# Altium schematic symbol library XCF16PVOG48C.SchLib: 1 symbol
Pins are listed as number, name and electrical type; pins without a type are passive.

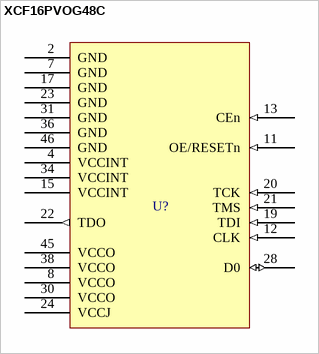
[diagram p0: symbol XCF16PVOG48C]

## XCF16PVOG48C
designator U?  (value not drawn)
footprint FPGA_FLASH (TSSOP, 48-Leads, Body 12,00x18,45mm, Pitch 0,50mm, IPC Medium Density)
pins: 2 GND (power), 4 VCCINT (power), 7 GND (power), 8 VCCO (power), 11 OE/RESETn (in), 12 CLK (in), 13 CEn (in), 15 VCCINT (power), 17 GND (power), 19 TDI (in), 20 TCK (in), 21 TMS (in), 22 TDO (out), 23 GND (power), 24 VCCJ (power), 28 D0 (io), 30 VCCO (power), 31 GND (power), 34 VCCINT (power), 36 GND (power), 38 VCCO (power), 45 VCCO (power), 46 GND (power)